# Altium footprint library 9001连接器.PcbLib: 2 footprints
Each footprint in its own frame and in the unit in brackets; x right, y up, seen from the top. Pads: shape width x height; smd on the part's side, far side on the other; paste and mask are expansions set on the pad; w line width, h text height; cw(c..) or ccw(c..) is an arc to the next point about the centre after c.
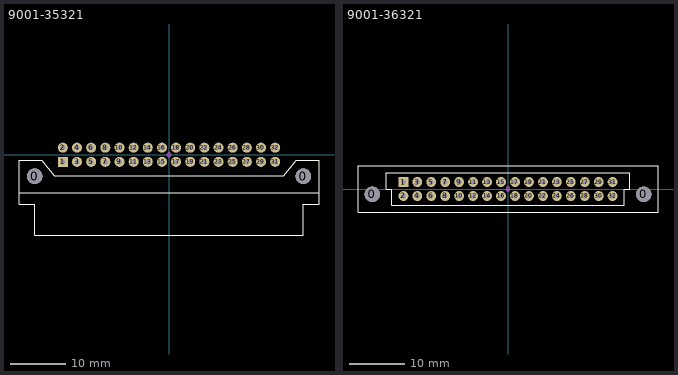
[diagram p0: the footprints below, top view; thin cyan lines are the x and y axes]

## 9001-35321 [mm] "32脚-母座，长：53.4mm，宽：12.8mm，高：8.4mm"
pads (34):
  round 2.8 hole 2.8: 0(-24.13,-3.87) 0(24.13,-3.87)
  rect 1.8x1.8 hole 0.9: 1(-19.05,-1.27)
  round 1.8 hole 0.9: 2(-19.05,1.27) 3(-16.51,-1.27) 4(-16.51,1.27) 5(-13.97,-1.27) 6(-13.97,1.27) 7(-11.43,-1.27) 8(-11.43,1.27) 9(-8.89,-1.27) 10(-8.89,1.27) 11(-6.35,-1.27) 12(-6.35,1.27) 13(-3.81,-1.27) 14(-3.81,1.27) 15(-1.27,-1.27) 16(-1.27,1.27) 17(1.27,-1.27) 18(1.27,1.27) 19(3.81,-1.27) 20(3.81,1.27) 21(6.35,-1.27) 22(6.35,1.27) 23(8.89,-1.27) 24(8.89,1.27) 25(11.43,-1.27) 26(11.43,1.27) 27(13.97,-1.27) 28(13.97,1.27) 29(16.51,-1.27) 30(16.51,1.27) 31(19.05,-1.27) 32(19.05,1.27)
Top Overlay:
  lines w0.2: -26.924,-6.858 26.924,-6.858 ; -26.924,-8.89 -24.13,-8.89 -24.13,-14.478 24.13,-14.478 24.13,-8.89 26.924,-8.89 26.924,-1.016 22.86,-1.016 20.574,-3.81 -20.574,-3.81 -22.86,-1.016 -26.924,-1.016 -26.924,-8.89
Bottom Overlay:
  lines w0.508: -19.812,0 19.558,0 ; -17.78,-1.524 -17.78,1.778 ; -15.24,-1.524 -15.24,1.778 ; -12.7,-1.524 -12.7,1.778 ; -10.16,-1.524 -10.16,1.778 ; -7.62,-1.524 -7.62,1.778 ; -5.08,-1.524 -5.08,1.778 ; -2.54,-1.524 -2.54,1.778 ; 0,-1.524 0,1.778 ; 2.54,-1.524 2.54,1.778 ; 5.08,-1.524 5.08,1.778 ; 7.62,-1.524 7.62,1.778 ; 10.16,-1.524 10.16,1.778 ; 12.7,-1.524 12.7,1.778 ; 15.24,-1.524 15.24,1.778 ; 17.78,-1.524 17.78,1.778
Mechanical 15:
  circle w0.05: c0,0 r0.35
  lines w0.05: -0.5,0 0.5,0 ; 0,-0.5 0,0.5
3D body: height 6.95, standoff -2.95, extent -26.7,-14.07 26.7,1.52

## 9001-36321 [mm] "32脚-公座，长：54.4mm，宽：8mm，高：11.5mm"
pads (34):
  round 2.8 hole 2.8: 0(-24.7,-0.97) 0(24.7,-0.97)
  rect 1.8x1.8 hole 0.9: 1(-19.05,1.27)
  round 1.8 hole 0.9: 2(-19.05,-1.27) 3(-16.51,1.27) 4(-16.51,-1.27) 5(-13.97,1.27) 6(-13.97,-1.27) 7(-11.43,1.27) 8(-11.43,-1.27) 9(-8.89,1.27) 10(-8.89,-1.27) 11(-6.35,1.27) 12(-6.35,-1.27) 13(-3.81,1.27) 14(-3.81,-1.27) 15(-1.27,1.27) 16(-1.27,-1.27) 17(1.27,1.27) 18(1.27,-1.27) 19(3.81,1.27) 20(3.81,-1.27) 21(6.35,1.27) 22(6.35,-1.27) 23(8.89,1.27) 24(8.89,-1.27) 25(11.43,1.27) 26(11.43,-1.27) 27(13.97,1.27) 28(13.97,-1.27) 29(16.51,1.27) 30(16.51,-1.27) 31(19.05,1.27) 32(19.05,-1.27)
Top Overlay:
  lines w0.2: -27.305,-4.191 -27.305,-4.064 -27.305,-3.81 -27.305,4.191 27.305,4.191 27.305,-4.191 -27.305,-4.191 ; -22.15,0 -22.15,3 22.15,3 22.15,0 21.15,0 21.15,-3 -21.15,-3 -21.15,0 -22.15,0
Bottom Overlay:
  lines w0.508: -19.812,0 19.558,0 ; -17.78,-1.524 -17.78,1.778 ; -15.24,-1.524 -15.24,1.778 ; -12.7,-1.524 -12.7,1.778 ; -10.16,-1.524 -10.16,1.778 ; -7.62,-1.524 -7.62,1.778 ; -5.08,-1.524 -5.08,1.778 ; -2.54,-1.524 -2.54,1.778 ; 0,-1.524 0,1.778 ; 2.54,-1.524 2.54,1.778 ; 5.08,-1.524 5.08,1.778 ; 7.62,-1.524 7.62,1.778 ; 10.16,-1.524 10.16,1.778 ; 12.7,-1.524 12.7,1.778 ; 15.24,-1.524 15.24,1.778 ; 17.78,-1.524 17.78,1.778
Mechanical 15:
  circle w0.05: c0,0 r0.35
  lines w0.05: -0.5,0 0.5,0 ; 0,-0.5 0,0.5
3D body: height 11.55, standoff -3.05, extent -27.2,-4 27.2,4